# EAGLE library part TEENSY_3.1-3.2_TESTER (library teensy)
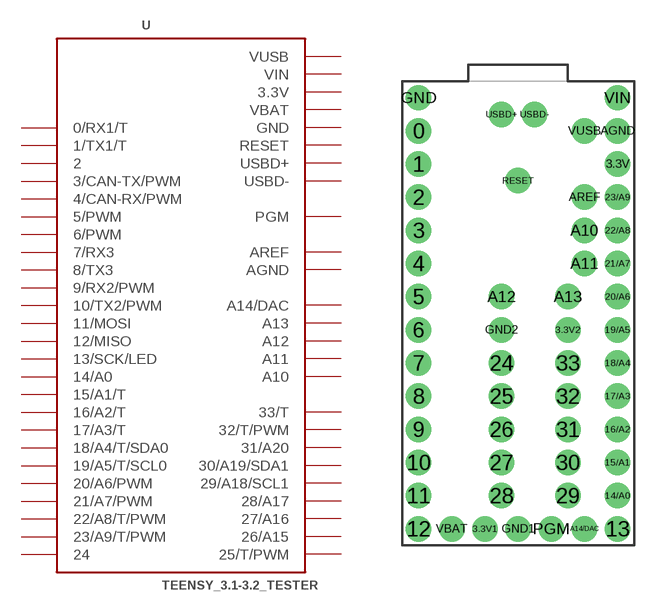
[diagram p22: symbol with the pads of TEENSY_3.1-3.2_TESTER; footprint TEENSY_3.1-3.2_TESTER]

Designator prefix -

## TEENSY_3.1-3.2_TESTER  [TEENSY_3.1-3.2_TESTER]
0  0/RX1/T
1  1/TX1/T
2  2
3  3/CAN-TX/PWM
3.3V  3.3V  pwr
3.3V1  3.3V  pwr
3.3V2  3.3V  pwr
4  4/CAN-RX/PWM
5  5/PWM
6  6/PWM
7  7/RX3
8  8/TX3
9  9/RX2/PWM
10  10/TX2/PWM
11  11/MOSI
12  12/MISO
13  13/SCK/LED
14/A0  14/A0
15/A1  15/A1/T
16/A2  16/A2/T
17/A3  17/A3/T
18/A4  18/A4/T/SDA0
19/A5  19/A5/T/SCL0
20/A6  20/A6/PWM
21/A7  21/A7/PWM
22/A8  22/A8/T/PWM
23/A9  23/A9/T/PWM
24  24
25  25/T/PWM
26  26/A15
27  27/A16
28  28/A17
29  29/A18/SCL1
30  30/A19/SDA1
31  31/A20
32  32/T/PWM
33  33/T
A10  A10
A11  A11
A12  A12
A13  A13
A14/DAC  A14/DAC
AGND  AGND  pwr
AREF  AREF  pwr
GND  GND  pwr
GND1  GND  pwr
GND2  GND  pwr
PGM  PGM
RESET  RESET
USBD+  USBD+
USBD-  USBD-
VBAT  VBAT  pwr
VIN  VIN  pwr
VUSB  VUSB  pwr

## Footprint TEENSY_3.1-3.2_TESTER (pad centres in mm)
drill 1.3: 0 -7.62,13.97; 1 -7.62,11.43; 2 -7.62,8.89; 3 -7.62,6.35; 3.3V 7.62,11.43; 3.3V1 -2.54,-16.51; 3.3V2 3.81,-1.27; 4 -7.62,3.81; 5 -7.62,1.27; 6 -7.62,-1.27; 7 -7.62,-3.81; 8 -7.62,-6.35; 9 -7.62,-8.89; 10 -7.62,-11.43; 11 -7.62,-13.97; 12 -7.62,-16.51; 13 7.62,-16.51; 14/A0 7.62,-13.97; 15/A1 7.62,-11.43; 16/A2 7.62,-8.89; 17/A3 7.62,-6.35; 18/A4 7.62,-3.81; 19/A5 7.62,-1.27; 20/A6 7.62,1.27; 21/A7 7.62,3.81; 22/A8 7.62,6.35; 23/A9 7.62,8.89; 24 -1.27,-3.81; 25 -1.27,-6.35; 26 -1.27,-8.89; 27 -1.27,-11.43; 28 -1.27,-13.97; 29 3.81,-13.97; 30 3.81,-11.43; 31 3.81,-8.89; 32 3.81,-6.35; 33 3.81,-3.81; A10 5.08,6.35; A11 5.08,3.81; A12 -1.27,1.27; A13 3.81,1.27; A14/DAC 5.08,-16.51; AGND 7.62,13.97; AREF 5.08,8.89; GND -7.62,16.51; GND1 0,-16.51; GND2 -1.27,-1.27; PGM 2.54,-16.51; RESET 0,10.16; USBD+ -1.27,15.24; USBD- 1.27,15.24; VBAT -5.08,-16.51; VIN 7.62,16.51; VUSB 5.08,13.97